# Altium footprint library Test.PcbLib: 1 footprints
Each footprint in its own frame and in the unit in brackets; x right, y up, seen from the top. Pads: shape width x height; smd on the part's side, far side on the other; paste and mask are expansions set on the pad; w line width, h text height; cw(c..) or ccw(c..) is an arc to the next point about the centre after c.
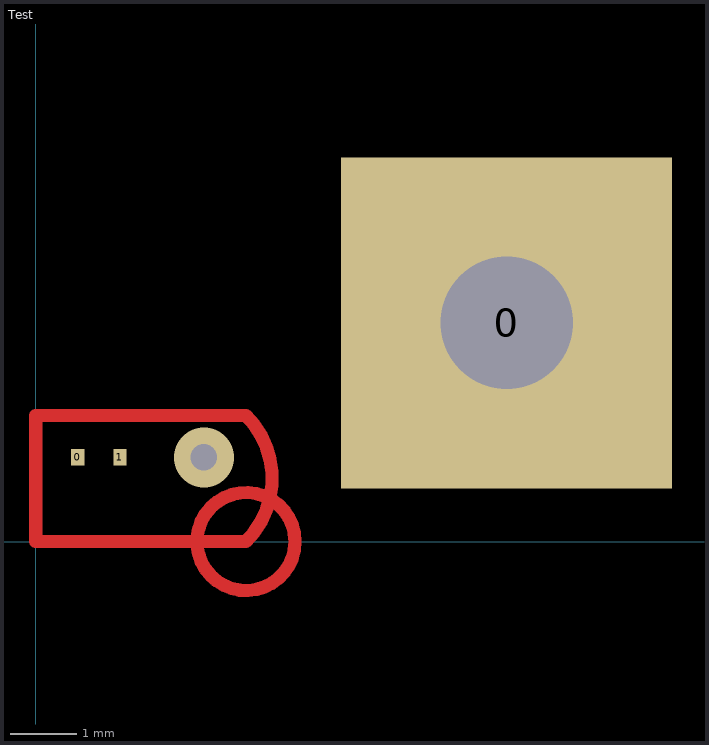
[diagram p0: the footprint, top view; thin cyan lines are the x and y axes]

## Test [mm]
pads (3):
  rect 0.2x0.25 smd: 0(0.635,1.27) 1(1.27,1.27)
  rect 5x5 hole 2: 0(7.112,3.302)
via 2.54,1.27 diameter 0.9 hole 0.4
Top Layer:
  circle w0.2: c3.175,0 r0.741
  lines w0.2: 0,0 3.175,0 ccw(c2.222,0.953) 3.175,1.905 0,1.905 0,0